# Altium integrated library ESP-AirReader2.IntLib: 21 symbols
Pins are listed as number, name and electrical type; pins without a type are passive.

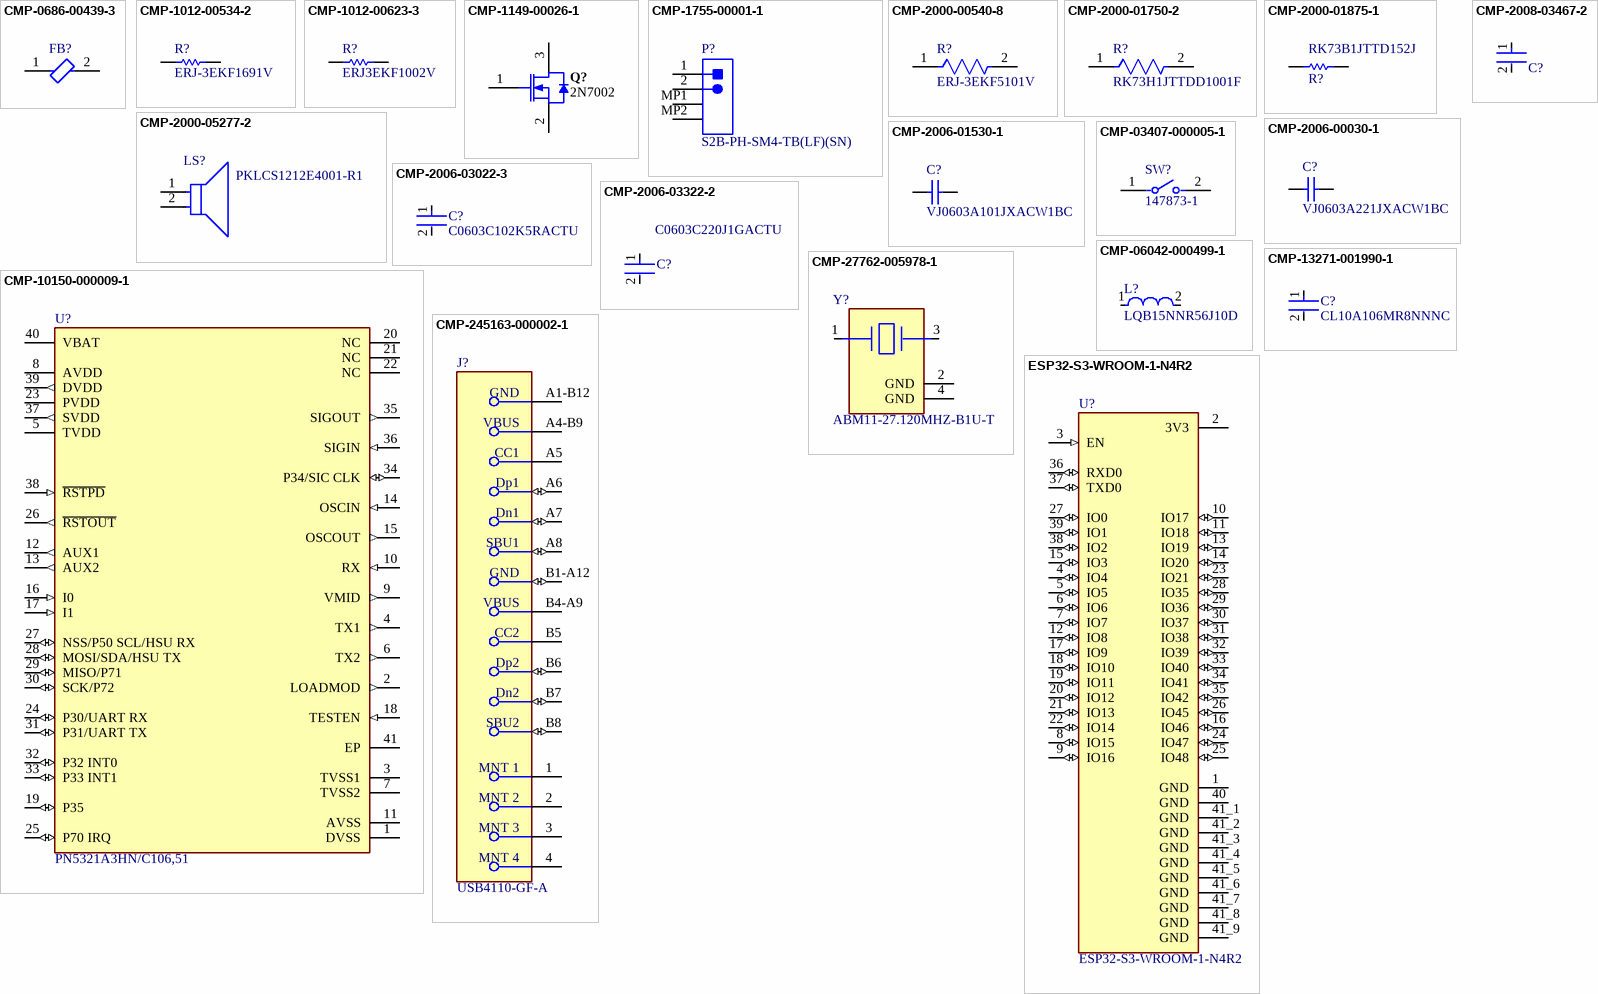
[diagram p0: symbols CMP-0686-00439-3 to ESP32-S3-WROOM-1-N4R2]

## CMP-0686-00439-3
designator FB?, comment BLM18AG121SN1D  (value not drawn)
Chip Ferrite Bead, 0603, 120Ω @ 100MHz, 0.18Ω, 25%, 800mA; Manufacturer: Murata; DC Resistance (DCR): 180mR; Number of Lines: 1; Current Rating: 500mA; Material: Steel; Impedance: 120R; Shielding: Unshielded; Case/Package: 0603; Max Operating Temperature: 125°C; Min Operating Temperature: -55°C; Series: BLM18A; Case Code (Metric): 1608; DC Resistance-Max: 180mR; Package Quantity: 1; Core Material: Ferrite; Radiation Hardening: No; Length: 1.6mm; Lead Free: Lead Free; Max DC Current: 500mA; Termination: SMD/SMT; Number of Pins: 2; Tolerance: 25%; Military Standard: Not; REACH SVHC: No SVHC; Number of Circuits: 1; Test Frequency: 100MHz; Max Current Rating: 500mA; Depth: 0.8mm; Frequency: 100MHz; Width: 0.8mm; Case Code (Imperial): 0603; DC Current: 500mA; Height: 0.8mm; RoHS Compliant: Yes; Packaging: Tape and Reel; Manufacturer Part Number: BLM18AG121SN1D
footprint FP-BLM18-0_15-t0_8-IPC_B
footprint FP-BLM18-0_15-t0_8-IPC_A
footprint FP-BLM18-0_15-t0_8-IPC_C
footprint FP-BLM18-0_15-t0_8-MFG
pins: 1, 2

## CMP-1012-00534-2
designator R?, comment ERJ-3EKF1691V
Manufacturer: Panasonic; Manufacturer: Vishay Dale; Manufacturer Part Number: CRCW06031K69FKTA; Manufacturer: Vishay; Manufacturer Part Number: CRCW06031K69FKEA; Manufacturer Part Number: CRCW06031K69FKEB; Manufacturer: Bourns; Manufacturer Part Number: CR0603-FX-1691ELF; Manufacturer: Yageo; Manufacturer Part Number: RC0603FR-071K69L; Part Number: ERJ-3EKF1691V; Manufacturer Part Number: ERJ-3EKF1691V
footprint RESC1608X55X30NL15T15 (Chip Resistor, 2-Leads, Body 1.60x0.80mm, IPC Medium Density)
footprint RESC1608X55X30LL15T15 (Chip Resistor, 2-Leads, Body 1.60x0.80mm, IPC High Density)
footprint RESC1608X55X30ML15T15 (Chip Resistor, 2-Leads, Body 1.60x0.80mm, IPC Low Density)
pins: 1, 2
1 alternate drawing of the same symbol

## CMP-1012-00623-3
designator R?, comment ERJ3EKF1002V
Chip Resistor, 10 KOhm, +/- 1%, 0.1 W, -55 to 155 degC, 0603 (1608 Metric), RoHS, Tape and Reel; Manufacturer: Panasonic; Manufacturer Part Number: ERJ-3EKF1002V; Manufacturer: Vishay Dale; Manufacturer Part Number: CRCW060310K0FKTC; Manufacturer: Vishay; Manufacturer Part Number: CRCW060310K0FKEA; Manufacturer Part Number: CRCW060310K0FKTA; Manufacturer Part Number: CRCW060310K0FKEC; Manufacturer: Yageo; Manufacturer Part Number: RC0603FR-0710KL; Manufacturer Part Number: CRCW060310K0FKEB; Manufacturer: Bourns; Manufacturer Part Number: CR0603-FX-1002ELF; Manufacturer Part Number: CRCW060310K0FKTB; Voltage Rating: 75V; Case\/Package: 0603; Power Rating: 100mW; Resistance: 10KOhm; Temperature Coefficient: 100ppm\/degreesC; Number of Pins: 2; Package Reference: 603; Depth: 0.8mm; Mount: SurfaceMount; Package Description: 2-Pin Surface Mount Device, Body 1.6 x 0.85 mm; Datasheet Version: 02/2017; Length: 1.6mm; Lead Free: LeadFree; Height: 0.45mm; Number of Terminations: 2; Max Power Dissipation: 100mW; Min Operating Temperature: -55degC; Datasheet URL: https://industrial.panasonic.com/cdbs/www-data/pdf/RDA0000/AOA0000C304.pdf; Termination: SMD/SMT; Case Code (Metric): 1608; Case Code (Imperial): 0603; Tolerance: 1%; Max Operating Temperature: 155degC; RoHSCompliant: true; Voltage Rating (DC): 75V; Radiation Hardening: No; Packaging: TapeandReel; Composition: ThickFilm; Mounting Technology: SurfaceMount; Manufacturer URL: http://www.panasonic.com/; Width: 0.031inch; REACH SVHC: NoSVHC; Contact Plating: Tin; Military Standard: Not; Package Quantity: 1
footprint RESC1609X55X30LL15T15 (Chip Resistor, 2-Leads, Body 1.75x0.95mm, IPC High Density)
footprint RESC1609X55X30ML15T15 (Chip Resistor, 2-Leads, Body 1.75x0.95mm, IPC Low Density)
footprint RESC1609X55X30NL15T15 (Chip Resistor, 2-Leads, Body 1.75x0.95mm, IPC Medium Density)
pins: 1, 2

## CMP-1149-00026-1
designator Q?, comment 2N7002
N-Channel OptiMOS Small-Signal-Transistor, 60 V VDS, 0.3 A ID, -55 to 150 degC, PG-SOT23, Reel, Green; Manufacturer: Infineon; RDS (on) (max) (@4.5V): 4,000 mOhm; VDS (max): 60 V; IDpuls (max): 1.2Â A; QG: 0.4Â nC; RDS (on) (max): 3,000 mOhm; RthJA (max): 250 K/W; ID (max): 0.3Â A; VGS(th) (max): 2.5Â V; VGS(th) (min): 1.5Â V; Green: TRUE; Ptot (max): 0.5Â W; PackageDescription: 3-Pin Small Outline Transistor Package, 2.9 x 1.3 mm Body, 0.95 mm Pitch; Halogen-free: TRUE; ComponentLink2Description: Datasheet; ComponentLink1URL: http://www.infineon.com/; Packing: Reel; DatasheetVersion: Rev. 2.4; PartNumber: 2N7002; PackageReference: PG-SOT23; PackageVersion: Apr-08; ComponentLink3URL: http://www.infineon.com/dgdl/SOT23-Package_Overview.pdf?folderId=db3a30431936bc4b0119532290053c66&fileId=db3a30431936bc4b0119533468123c85; ComponentLink1Description: Manufacturer URL; Mounting Technology: Surface Mount; ComponentLink3Description: Package Specification; ComponentLink2URL: http://www.infineon.com/dgdl/2N7002_Rev2.4.pdf?folderId=db3a3043156fd573011622e10b5c1f67&fileId=db3a304319bc939a0119c2a9461e79e6; Manufacturer Part Number: 2N7002
footprint INF-PG-SOT23_M (SOT23, 3-Leads, Body 2.9x1.3mm, Pitch 0.95mm, IPC Low Density)
footprint INF-PG-SOT23_L (SOT23, 3-Leads, Body 2.9x1.3mm, Pitch 0.95mm, IPC High Density)
footprint INF-PG-SOT23_N (SOT23, 3-Leads, Body 2.9x1.3mm, Pitch 0.95mm, IPC Medium Density)
pins: 1 GATE, 2 SOURCE, 3 DRAIN

## CMP-1755-00001-1
designator P?, comment S2B-PH-SM4-TB(LF)(SN)
Male Header, Pitch 2 mm, 1 x 2 Position, Height 5.5 mm, -25 to 85 degC, RoHS, Tape and Reel; Manufacturer: JST; Manufacturer Part Number: S2BPHSM4TBLFSN; Current Rating: 3 A; ComponentLink1URL: http://www.jst.com/home2.html; Radiation Hardening: No; RoHSCompliant: True; Mount: Through Hole; Contact Material: Bronze; Package Quantity: 100; Width: 2.34 mm; DatasheetVersion: Dec-12; Height: 8.13 mm; Max Operating Temperature: 105degC; ComponentLink2Description: Datasheet; Lead Pitch: 0.1 inch; Contact Finish: Lead; Packaging: Bulk; Colour: Black; Contact Plating: Tin; Min Operating Temperature: -65degC; ComponentLink1Description: Manufacturer URL; PackageReference: S2B-PH-SM4-TB(LF)(SN)-2; PackageDescription: Male Header, Pitch 2 mm, 1 x 2 Position, Height 5.5 mm; ComponentLink2URL: http://www.jst-mfg.com/product/pdf/eng/ePH.pdf; Pins: 40; Length: 101.19 mm
footprint JST- S2B-PH-SM4-TB(LF)(SN)-2_V (SMD, 2-Leads, Body 7.9x7.6mm, Pitch 2mm)
pins: 1, 2, MP1, MP2

## CMP-2000-00540-8
designator R?, comment ERJ-3EKF5101V
RES SMD 5.1K OHM 1% 1/10W 0603; Manufacturer: Panasonic; Power Rating: 100mW; Temperature Coefficient: 100ppm/°C; Voltage Rating: 75V; Resistance: 5.1kR; Military Standard: Not; Case/Package: 0603; Packaging: Tape and Reel; Package Quantity: 1; Reach SVHC Compliant: Yes; Lead Free: Lead Free; Mount: Surface Mount; Size Code: 0603; Depth: 0.8mm; Resistance Tolerance: 1%; Number of Terminations: 2; Resistor Type: Thick Film; Width: 0.8mm; Construction: Rectangular; Series: ERJ; Radiation Hardening: No; Max Operating Temperature: 155°C; Features: Automotive AEC-Q200; Tolerance: 1%; Voltage Rating (DC): 75V; Length: 1.6mm; RoHS Compliant: Yes; Min Operating Temperature: -55°C; Case Code (Metric): 1608; Termination: SMD/SMT; Weight: 7.1E-05oz; Max Power Dissipation: 100mW; Contact Plating: Tin; Height: 0.022inch; Case Code (Imperial): 0603; Manufacturer Part Number: ERJ-3EKF5101V
footprint FP-ERJ3EK-MFG
footprint FP-ERJ3EK-IPC_A
footprint FP-ERJ3EK-IPC_B
footprint FP-ERJ3EK-IPC_C
pins: 1, 2

## CMP-2000-01750-2
designator R?, comment RK73H1JTTDD1001F
1kΩ ±1% 0.125W Chip Resistor 0603 Thick Film AEC-Q200 Qualified; Manufacturer: KOA Speer; Power Rating: 100mW; Temperature Coefficient: 100ppm/°C; Voltage Rating: 50V; Resistance: 1kR; Max Operating Temperature: 155°C; Min Operating Temperature: -55°C; Depth: 0.8mm; Case/Package: 0603; Length: 1.6mm; Package Quantity: 10000; Construction: Rectangular; Resistor Type: Thick Film; Lead Free: Lead Free; RoHS Compliant: Yes; Military Standard: Not; Case Code (Metric): 1608; Termination: SMD/SMT; Packaging: Tape and Reel; Tolerance: 1%; Width: 0.8mm; Series: RK73H; Case Code (Imperial): 0603; Height: 0.45mm; Manufacturer Part Number: RK73H1JTTDD1001F
footprint FP-RK73H1J-IPC_A
footprint FP-RK73H1J-MFG
footprint FP-RK73H1J-IPC_B
footprint FP-RK73H1J-IPC_C
pins: 1, 2

## CMP-2000-01875-1
designator R?, comment RK73B1JTTD152J
Manufacturer: KOA Speer; Part Number: RK73B1JTTD152J; Manufacturer Part Number: RK73B1JTTD152J
footprint RESC1608X55X30LL20T10 (Chip Resistor, 2-Leads, Body 1.60x0.80mm, IPC High Density)
footprint RESC1608X55X30ML20T10 (Chip Resistor, 2-Leads, Body 1.60x0.80mm, IPC Low Density)
footprint RESC1608X55X30NL20T10 (Chip Resistor, 2-Leads, Body 1.60x0.80mm, IPC Medium Density)
pins: 1, 2
1 alternate drawing of the same symbol

## CMP-2000-05277-2
designator LS?, comment PKLCS1212E4001-R1
AUDIO PIEZO TRANSDUCER 25V SMD; Manufacturer: Murata; Self Resonant Frequency: 4kHz; Nominal Input Voltage: 3V; Washable: No; Diameter: 12mm; Min Operating Temperature: -20°C; Lead Free: Lead Free; Voltage Rating: 25V; Radiation Hardening: No; Max Supply Voltage: 25V; Package Quantity: 1; Max Frequency: 4kHz; Width: 12mm; Voltage Rating (DC): 25V; Packaging: Tape and Reel; Max Operating Temperature: 70°C; Frequency: 4kHz; Length: 12mm; Height: 3mm; Termination: Solder; REACH SVHC: No SVHC; Depth: 12mm; Mount: Surface Mount; Manufacturer Part Number: PKLCS1212E4001-R1
footprint FP-PKLCS1212E4001-R1-MFG
pins: 1, 2

## CMP-2006-00030-1
designator C?, comment VJ0603A221JXACW1BC
Manufacturer: Vitramon; Manufacturer: Vishay; Part Number: VJ0603A221JXACW1BC; Manufacturer Part Number: VJ0603A221JXACW1BC
footprint CAPC1608X95X40ML15T15 (Chip Capacitor, 2-Leads, Body 1.60x0.80mm, IPC Low Density)
footprint CAPC1608X95X40NL15T15 (Chip Capacitor, 2-Leads, Body 1.60x0.80mm, IPC Medium Density)
footprint CAPC1608X95X40LL15T15 (Chip Capacitor, 2-Leads, Body 1.60x0.80mm, IPC High Density)
pins: 1, 2
1 alternate drawing of the same symbol

## CMP-2006-01530-1
designator C?, comment VJ0603A101JXACW1BC
Manufacturer: Vitramon; Manufacturer: Vishay; Part Number: VJ0603A101JXACW1BC; Manufacturer Part Number: VJ0603A101JXACW1BC
footprint CAPC1608X95X40ML15T15 (Chip Capacitor, 2-Leads, Body 1.60x0.80mm, IPC Low Density)
footprint CAPC1608X95X40LL15T15 (Chip Capacitor, 2-Leads, Body 1.60x0.80mm, IPC High Density)
footprint CAPC1608X95X40NL15T15 (Chip Capacitor, 2-Leads, Body 1.60x0.80mm, IPC Medium Density)
pins: 1, 2
1 alternate drawing of the same symbol

## CMP-2006-03022-3
designator C?, comment C0603C102K5RACTU
CAP CER 1000PF 50V X7R 0603; Manufacturer: KEMET; Automotive Grade: Grade 1; Tolerance: 0.1; Value: 1,000 pF; Temperature Coefficient: 30ppm/°C; Material: Ceramic; Temperature Characteristic: X7R; ComponentLink2URL: https://api.kemet.com/component-edge/download/datasheet/C0603C100J5GACAUTO.pdf; Temperature Range Low: -55°C; Capacitance: 1,000 pF; Device Class L2: Capacitors; Device Class L3: Ceramic Capacitors; Device Class L1: Passive Components; Temperature Range High: +125°C; Manufacturer Part Number: C0603C102K5RACTU; Digikey Description: CAP CER 1000PF 50V X7R 0603; Temperature: -55°C to +125°C; Voltage Rating: 50 V; Mouser Description: Capacitor; Ceramic; Cap; 1000pF; Tol 10%; SMT; Vol-Rtg 50V; X7R; Tape and Reel; Automotive: Yes; RoHS: TRUE; Octopart: https://octopart.com/c0603c102k5ractu-kemet-144878; Height: 0.87mm; Package: C0603C-CF; Lead Free: Yes; Category: Cap; ComponentLink2Description: Datasheet
footprint FP-C0603C-CF-MFG
footprint FP-C0603C-CF-IPC_C
footprint FP-C0603C-CF-IPC_B
footprint FP-C0603C-CF-IPC_A
pins: 1, 2

## CMP-2006-03322-2
designator C?, comment C0603C220J1GACTU
CAP CER 22PF 100V 5% NP0 0603; Manufacturer: KEMET; Material: Ceramic; Automotive Grade: Grade 1; Temperature Characteristic: C0G; Temperature Coefficient: 30ppm/°C; Tolerance: 0.05; Temperature Range High: +125°C; Capacitance: 22 pF; ComponentLink2URL: https://api.kemet.com/component-edge/download/datasheet/C0603C100J5GACAUTO.pdf; Package: C0603C-CF; Category: Cap; Voltage Rating: 100 V; Automotive: Yes; Mouser Description: Multilayer Ceramic Capacitors MLCC - SMD/SMT 100volts 22pF C0G 5%; Device Class L1: Passive Components; Device Class L3: Ceramic Capacitors; Temperature: -55°C to +125°C; Digikey Description: CAP CER 22PF 100V 5% NP0 0603; RoHS: TRUE; Value: 22 pF; ComponentLink2Description: Datasheet; Height: 0.87mm; Temperature Range Low: -55°C; Manufacturer Part Number: C0603C220J1GACTU; Device Class L2: Capacitors; Octopart: https://octopart.com/c0603c220j1gactu-kemet-9142653; Lead Free: Yes
footprint FP-C0603C-CF-MFG
footprint FP-C0603C-CF-IPC_C
footprint FP-C0603C-CF-IPC_B
footprint FP-C0603C-CF-IPC_A
pins: 1, 2

## CMP-2008-03467-2
designator C?, comment C0402C330J5GACTU  (value not drawn)
Ceramic Capacitor 33Pf 50V, C0G, 5%, 0402, Full Reel; Manufacturer: Kemet; Tolerance: 0.05; Temperature Coefficient: 15%; Ipc Land Pattern Name: CAPC10050X50; Mouser Description: Ceramic Capacitor 33Pf 50V, C0G, 5%, 0402, Full Reel; Voltage Rating: 50 V; Device Class L3: Ceramic Capacitors; Height: 0.55mm; Octopart: https://octopart.com/c0402c330j5gactu-kemet-124597; Capacitance: 33 pF; ComponentLink2Description: Datasheet; Package: C0402-BB; Temperature Characteristic: C0G; Temperature Range High: +125°C; Digikey Description: Ceramic Capacitor 33Pf 50V, C0G, 5%, 0402, Full Reel; Temperature: -55°C to +125°C; ComponentLink2URL: https://content.kemet.com/datasheets/KEM_C1002_X7R_SMD.pdf; Temperature Range Low: -55°C; Manufacturer Part Number: C0402C330J5GACTU; Device Class L2: Capacitors; Lead Free: Yes; Category: Cap; Material: Ceramic; RoHS: TRUE; Device Class L1: Passive Components; Automotive: No; Value: 33 pF; Manufacturer: KEMET
footprint FP-C0402-BB-MFG
footprint FP-C0402-BB-IPC_C
footprint FP-C0402-BB-IPC_B
footprint FP-C0402-BB-IPC_A
pins: 1, 2

## CMP-03407-000005-1
designator SW?, comment 147873-1
SWITCH TACTILE SPST-NO 0.05A 24V; Manufacturer: TE Connectivity; Contact Resistance: 100mΩ; Operating Force: 180gf; Electromechanical Life: 40000Cycles; Contact Current Rating: 50mA; Throw Configuration: SPST-NO; Mouser Description: Switch Tactile OFF (ON) SPST Rectangular Button J-Bend 0.05A 24VDC 1.77N SMD T/R; Mount: Surface Mount; Height: 5.5mm; Category: Switch; RoHS: TRUE; Temperature Range High: +85°C; ComponentLink2Description: Datasheet; Temperature Range Low: -35°C; Device Class L1: Electromechanical; Device Class L2: Switches; Package: 0; Temperature: -35°C to +85°C; Device Class L3: Tactile Switches; Automotive: No; Manufacturer Part Number: 147873-1; ComponentLink2URL: https://www.te.com/commerce/DocumentDelivery/DDEController?Action=showdoc&DocId=Customer+Drawing%7F147873%7FK3%7Fpdf%7FEnglish%7FENG_CD_147873_K3.pdf%7F147873-1; Lead Free: Yes; Voltage Rating Dc: 24V; Octopart: https://octopart.com/147873-1-te+connectivity-40818451; Digikey Description: SWITCH TACTILE SPST-NO 0.05A 24V
footprint FP-147873-1-MFG
pins: 1, 2

## CMP-06042-000499-1
designator L?, comment LQB15NNR56J10D
Shielded Multilayer Inductor 560nH 5% 300mA 0.9125Ω 0402 (1005); Manufacturer: Murata; DC Resistance (DCR): 912.5mR; Test Frequency: 25MHz; Core Material: Ferrite; Self Resonant Frequency: 80MHz; Height - Seated (Max): 0.022inch; Tolerance: 5%; Width: 0.5mm; Length: 0.039inch; Shielding: Shielded; Max DC Current: 300mA; Termination: SMD/SMT; Case Code (Metric): 1005; Height: 0.5mm; Packaging: Tape and Reel; Package Quantity: 10000; Max Operating Temperature: 125°C; Mount: Surface Mount; Inductance: 560nH; Case/Package: 0402; Current Rating: 300mA; Case Code (Imperial): 0402; Min Operating Temperature: -55°C; Manufacturer Part Number: LQB15NNR56J10D
footprint FP-LQB15NN_10-MFG
footprint FP-LQB15NN_10-IPC_C
footprint FP-LQB15NN_10-IPC_A
footprint FP-LQB15NN_10-IPC_B
pins: 1, 2

## CMP-10150-000009-1
designator U?, comment PN5321A3HN/C106,51
IC RFID RDR/TRAN 13.56MZ 40HVQFN; Manufacturer: NXP Semiconductors; Max Power Dissipation: 500mW; Transmitting Current: 60mA; Data Rate: 424kbits/s; Max Junction Temp: +125°C; Standoff Height: 0mm; Nominal Supply Current: 0.5-60mA; Interface: I2C,SPI,UART; Number Of Adc Channels: 2; Max Frequency: 13.56MHz; Number Of Gpio: 9; Min Supply Voltage: 1.6V; Max Supply Voltage: 5.5V; RoHS: TRUE; Ambient Temperature Range High: +85°C; Temperature Range High: +125°C; Lead Free: Yes; Package: SOT618-1; Temperature Range Low: -40°C; Device Class L1: Integrated Circuits (ICs); Digikey Description: IC RFID RDR/TRAN 13.56MZ 40HVQFN; Octopart: https://octopart.com/pn5321a3hn%2Fc106%2C51-nxp+semiconductors-18453768; Device Class L3: Transceivers; Temperature: -40°C to +125°C; Ipc Land Pattern Name: QFN50P600X600X85-40; Device Class L2: RF Semiconductors and Devices; Footprint Url: https://www.nxp.com/docs/en/package-information/SOT618-1.pdf; Automotive: No; ComponentLink2Description: Datasheet; ComponentLink2URL: https://www.nxp.com/docs/en/nxp/data-sheets/PN532_C1.pdf; Category: IC; Height: 1mm; Mouser Description: PN5321A3HN Series 13.56 MHz RF Reader Analog and Digital Combo - HVQFN-40; Manufacturer Part Number: PN5321A3HN/C106,51; Ambient Temperature Range Low: -30°C
footprint FP-SOT618-1-MFG
footprint FP-SOT618-1-IPC_C
footprint FP-SOT618-1-IPC_B
footprint FP-SOT618-1-IPC_A
pins: 1 DVSS (power), 2 LOADMOD (out), 3 TVSS1 (power), 4 TX1 (out), 5 TVDD (power), 6 TX2 (out), 7 TVSS2 (power), 8 AVDD (power), 9 VMID (out), 10 RX (in), 11 AVSS (power), 12 AUX1 (out), 13 AUX2 (out), 14 OSCIN (in), 15 OSCOUT (out), 16 I0 (in), 17 I1 (in), 18 TESTEN (in), 19 P35 (io), 20 NC, 21 NC, 22 NC, 23 PVDD (power), 24 P30/UART RX (io), 25 P70 IRQ (io), 26 ~{RSTOUT} (out), 27 NSS/P50 SCL/HSU RX (io), 28 MOSI/SDA/HSU TX (io), 29 MISO/P71 (io), 30 SCK/P72 (io), 31 P31/UART TX (io), 32 P32 INT0 (io), 33 P33 INT1 (io), 34 P34/SIC CLK (io), 35 SIGOUT (out), 36 SIGIN (in), 37 SVDD (out), 38 ~{RSTPD} (in), 39 DVDD (out), 40 VBAT (power), 41 EP

## CMP-13271-001990-1
designator C?, comment CL10A106MR8NNNC
Cap Ceramic 10uF 4V X5R ±20% Pad SMD 0603 +85°C T/R; Manufacturer: Samsung; Thickness: 0.035inch; Dielectric: X5R; Lead Free: Lead Free; Case Code (Imperial): 0603; Height: 0.8mm; Case Code (Metric): 1608; Voltage Rating (DC): 4V; Length: 1.6mm; Voltage Rating: 4V; Min Operating Temperature: -55°C; Depth: 0.8mm; Mount: Surface Mount; Radiation Hardening: No; Case/Package: 0603; Package Quantity: 1; Packaging: Tape and Reel; Width: 0.031inch; Tolerance: 20%; Max Operating Temperature: 85°C; Capacitance: 10uF; Manufacturer Part Number: CL10A106MR8NNNC
footprint FP-CL10-IPC_C
footprint FP-CL10-IPC_A
footprint FP-CL10-IPC_B
pins: 1, 2

## CMP-27762-005978-1
designator Y?, comment ABM11-27.120MHZ-B1U-T
Crystal 27.12MHz ±10ppm 10pF SMD-4 2mm x 1.6mm; Manufacturer: Abracon; Manufacturer Part Number: ABM11-27.120MHZ-B1U-T
footprint FP-ABM11-MFG
pins: 1, 2 GND (power), 3, 4 GND (power)

## CMP-245163-000002-1
designator J?, comment USB4110-GF-A
CONN USB 2.0 TYPE-C R/A SMT; Manufacturer: GCT; Manufacturer: Global Connector Technology; Conn Orientation: Right Angle; Usb Standard: USB 2.0; Voltage Rating: 20V; Current Rating: 3/4.25/1.25/0.25A; Number Of Contacts: 16; Is Female: yes; Shielding: true; Standoff Height: 0.1mm; Octopart: https://octopart.com/usb4110-gf-a-gct-103941985; Temperature: -40°C to +85°C; RoHS: TRUE; Automotive: No; Contact Material: Gold,Nickel; Device Class L1: Connectors; Device Class L2: USB Connectors; Package: 0; Lead Free: Yes; ComponentLink2URL: https://gct.co/files/drawings/usb4110.pdf; Temperature Range High: +85°C; Temperature Range Low: -40°C; Height: 3.46mm; Manufacturer Part Number: USB4110-GF-A; ComponentLink2Description: Datasheet; Device Class L3: unset; Digikey Description: CONN USB 2.0 TYPE-C R/A SMT; Category: Conn
footprint FP-USB4110-GF-A-MFG
pins: 1 MNT 1, 2 MNT 2, 3 MNT 3, 4 MNT 4, A1-B12 GND, A4-B9 VBUS (power), A5 CC1 (power), A6 Dp1 (io), A7 Dn1 (io), A8 SBU1 (io), B1-A12 GND (io), B4-A9 VBUS (power), B5 CC2 (power), B6 Dp2 (io), B7 Dn2 (io), B8 SBU2 (io)

## ESP32-S3-WROOM-1-N4R2
designator U?
MF: {'manufacturer': u'Espressif Systems'}; Package: None; Price: None; Value: *; MP: ESP32-S3-WROOM-1-N4R2; Availability: Unavailable
footprint XCVR_ESP32-S3-WROOM-1-N4R2
pins: 1 GND (power), 2 3V3 (power), 3 EN (in), 4 IO4 (io), 5 IO5 (io), 6 IO6 (io), 7 IO7 (io), 8 IO15 (io), 9 IO16 (io), 10 IO17 (io), 11 IO18 (io), 12 IO8 (io), 13 IO19 (io), 14 IO20 (io), 15 IO3 (io), 16 IO46 (io), 17 IO9 (io), 18 IO10 (io), 19 IO11 (io), 20 IO12 (io), 21 IO13 (io), 22 IO14 (io), 23 IO21 (io), 24 IO47 (io), 25 IO48 (io), 26 IO45 (io), 27 IO0 (io), 28 IO35 (io), 29 IO36 (io), 30 IO37 (io), 31 IO38 (io), 32 IO39 (io), 33 IO40 (io), 34 IO41 (io), 35 IO42 (io), 36 RXD0 (io), 37 TXD0 (io), 38 IO2 (io), 39 IO1 (io), 40 GND (power), 41_1 GND (power), 41_2 GND (power), 41_3 GND (power), 41_4 GND (power), 41_5 GND (power), 41_6 GND (power), 41_7 GND (power), 41_8 GND (power), 41_9 GND (power)